# Altium footprint library Diodes_rus.PcbLib: 41 footprints (part 2 of 3)
Each footprint in its own frame and in the unit in brackets; x right, y up, seen from the top. Pads: shape width x height; smd on the part's side, far side on the other; paste and mask are expansions set on the pad; w line width, h text height; cw(c..) or ccw(c..) is an arc to the next point about the centre after c.
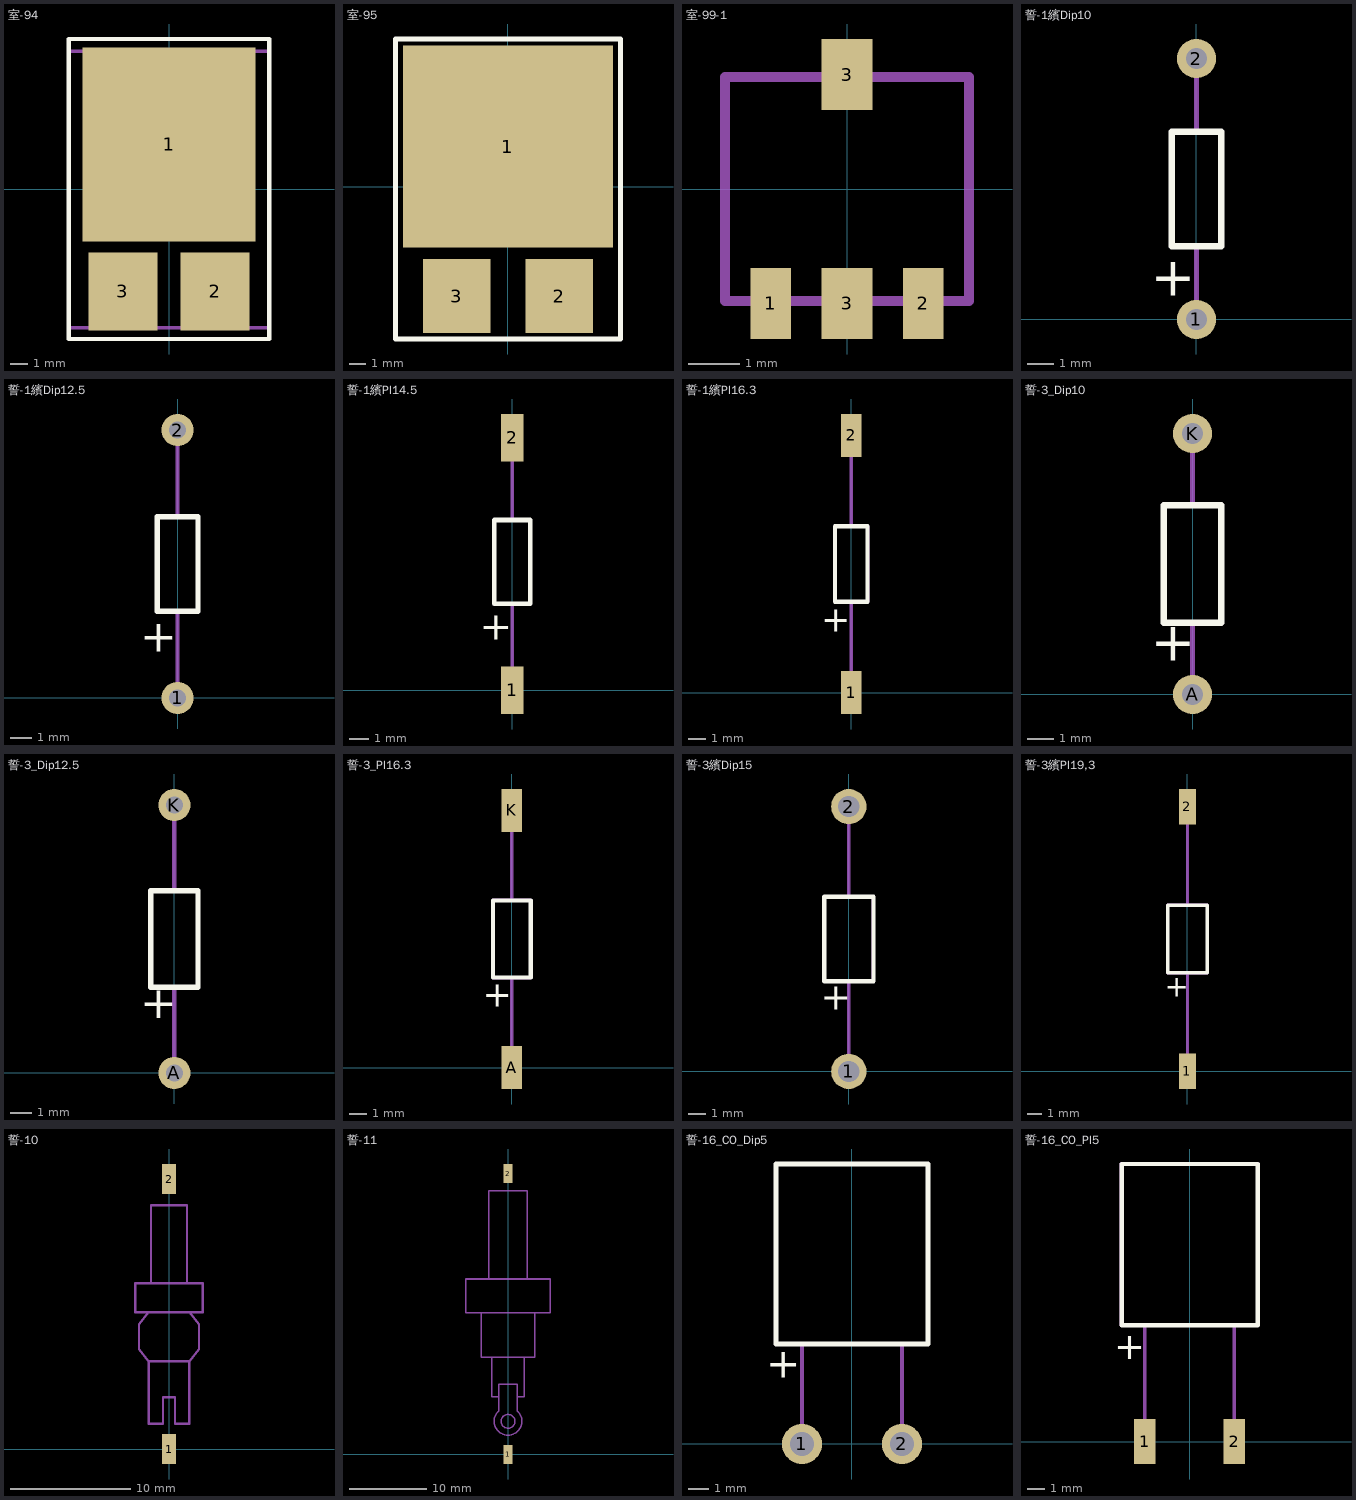
[diagram p1: the footprints below, top view; thin cyan lines are the x and y axes]

## 室-94 [mm]
height 3.6
pads (3):
  rect 10x11.2 smd: 1(0,2.6)
  rect 4x4.5 smd: 2(2.665,-5.9) 3(-2.665,-5.9)
Top Overlay:
  lines w0.25: -5.8,-8.65 5.8,-8.65 5.8,8.7 -5.8,8.7 -5.8,-8.65
Mechanical 1:
  lines w0.2: -5.8,-8 5.8,-8 5.8,8 -5.8,8 -5.8,-8
  text "+" at 1.55,-4.775 h1.5
  text "1" at 0,1.625 h1.5
  text "3" at -2.9,-6.3 h1.5
  text "2" at 2.4,-6.3 h1.5
  text "-" at 0,3.375 h1.5
  text ".Designator" at -2.67,-1.7 h1.5
3D body: height 3.6, standoff 0, extent -5.8,-8 5.8,8

## 室-95 [mm]
height 3.6
pads (3):
  rect 12.5x12 smd: 1(0,2.4)
  rect 4x4.4 smd: 2(3.05,-6.5) 3(-3.05,-6.5)
Top Overlay:
  lines w0.3: -6.7,-9.05 6.7,-9.05 6.7,8.8 -6.7,8.8 -6.7,-9.05
Mechanical 1:
  lines w0.2: -6.7,-9.05 6.7,-9.05 6.7,8.8 -6.7,8.8 -6.7,-9.05
  text ".Designator" at -2.42,-1.55 h1.5
  text "1" at 0,2.4 h1.5
  text "3" at -3.3,-7 h1.5
  text "2" at 2.8,-7 h1.5
3D body: height 3.6, standoff 0, extent -6.7,-9 6.7,9

## 室-99-1 [mm]
height 1.6
pads (4):
  rect 0.8x1.4 smd: 1(-1.5,-2.25) 2(1.5,-2.25)
  rect 1x1.4 smd: 3(0,-2.25) 3(0,2.25)
Top Solder:
  region: 2.4,-2.2 2.4,2.2 -2.4,2.2 -2.4,-2.2
Mechanical 1:
  lines w0.2: -1.5,-2.625 -1.5,-2.2 ; 0,-2.625 0,-2.2 ; 0,2.2 0,2.625 ; 1.5,-2.625 1.5,-2.2 ; -2.4,-2.2 2.4,-2.2 2.4,2.2 -2.4,2.2 -2.4,-2.2
  text ".Comment" at -2.95,-4.25 h1.5
  text ".Designator" at -1.1,-0.5 h1.5
  text "2" at 1.2,-1.675 h1.5
  text "3" at -0.3,0.675 h1.5
  text "1" at -1.65,-1.65 h1.5
3D body: height 1.6, standoff 0, extent -2.3,-2.625 2.3,2.625

## 誓-1繽Dip10 [mm]
height 1.9
pads (2):
  round 1.5 hole 0.8: 1(0,0) 2(0,10)
Top Overlay:
  lines w0.25: -0.95,2.8 0.95,2.8 0.95,7.2 -0.95,7.2 -0.95,2.8
  text "+" at -1.75,0.9 h1.5
Mechanical 1:
  lines w0.2: 0,0 0,2.75 ; 0,7.2 0,10 ; -0.95,2.8 0.95,2.8 0.95,7.2 -0.95,7.2 -0.95,2.8
  text ".Designator" at -1.55,2.35 h1.5
  text "+" at -0.35,3.05 h1.5
3D body: height 1.9, standoff -3, extent -0.95,-0.249 0.95,10.25

## 誓-1繽Dip12.5 [mm]
height 1.9
pads (2):
  round 1.5 hole 0.8: 1(0,0) 2(0,12.5)
Top Overlay:
  lines w0.25: -0.95,4.05 0.95,4.05 0.95,8.45 -0.95,8.45 -0.95,4.05
  text "+" at -1.75,2.15 h1.5
Mechanical 1:
  lines w0.2: 0,0 0,4 ; 0,8.45 0,12.5 ; -0.95,4.05 0.95,4.05 0.95,8.45 -0.95,8.45 -0.95,4.05
  text ".Designator" at -1.55,3.6 h1.5
  text "+" at -0.35,4.3 h1.5
3D body: height 1.9, standoff -3, extent -0.95,-0.249 0.95,12.75

## 誓-1繽Pl14.5 [mm]
height 1.9
pads (2):
  rect 1.2x2.5 smd: 1(0,0) 2(0,13.275)
Top Overlay:
  lines w0.25: -0.95,4.55 -0.95,8.95 0.95,8.95 0.95,4.55 -0.95,4.55
  text "+" at -1.7,2.65 h1.5
Mechanical 1:
  lines w0.2: 0,-0.5 0,4.55 ; 0,8.95 0,14 ; -0.95,4.55 -0.95,8.95 0.95,8.95 0.95,4.55 -0.95,4.55
  text ".Designator" at -1.6,4.85 h1.5
  text "+" at -0.3,4.8 h1.5
3D body: height 1.9, standoff 0, extent -0.95,-0.5 0.95,14

## 誓-1繽Pl16.3 [mm]
height 1.9
pads (2):
  rect 1.2x2.5 smd: 1(0,0) 2(0,15)
Top Overlay:
  lines w0.25: -0.95,5.3 -0.95,9.7 0.95,9.7 0.95,5.3 -0.95,5.3
  text "+" at -1.75,3.55 h1.5
Mechanical 1:
  lines w0.2: 0,-0.65 0,5.3 ; 0,9.7 0,15.65 ; -0.95,5.3 -0.95,9.7 0.95,9.7 0.95,5.3 -0.95,5.3
  text ".Designator" at -1.6,5.65 h1.5
  text "+" at -0.35,5.7 h1.5
3D body: height 1.9, standoff 0, extent -0.95,-0.65 0.95,15.65

## 誓-3_Dip10 [mm]
height 2.2
pads (2):
  round 1.5 hole 0.8: A(0,0) K(0,10)
Top Overlay:
  lines w0.25: -1.1,2.75 -1.1,7.25 1.1,7.25 1.1,2.75 -1.1,2.75
  text "+" at -1.6,1.3 h1.5
Mechanical 1:
  lines w0.2: 0,0 0,2.75 ; 0,7.25 0,10 ; -1.1,2.75 -1.1,7.25 1.1,7.25 1.1,2.75 -1.1,2.75
  text ".Designator" at -1.65,1.93 h1.5
  text "+" at -0.25,3.3 h1.5
3D body: height 1.9, standoff -3, extent -0.95,-0.249 0.95,10.25

## 誓-3_Dip12.5 [mm]
height 2.2
pads (2):
  round 1.5 hole 0.8: A(0,0) K(0,12.5)
Top Overlay:
  lines w0.25: -1.1,4 1.1,4 1.1,8.5 -1.1,8.5 -1.1,4
  text "+" at -1.6,2.55 h1.5
Mechanical 1:
  lines w0.2: 0,0 0,4 ; 0,8.5 0,12.5 ; -1.1,4 1.1,4 1.1,8.5 -1.1,8.5 -1.1,4
  text "+" at -0.25,4.55 h1.5
  text ".Designator" at -1.65,3.18 h1.5
3D body: height 1.9, standoff -3, extent -0.95,-0.249 0.95,12.75

## 誓-3_Pl16.3 [mm]
height 2.2
pads (2):
  rect 1.2x2.5 smd: A(0,0) K(0,15)
Top Overlay:
  lines w0.25: -1.1,5.25 -1.1,9.75 1.1,9.75 1.1,5.25 -1.1,5.25
  text "+" at -1.7,3.55 h1.5
Mechanical 1:
  lines w0.2: 0,-0.65 0,5.25 ; 0,9.75 0,15.65 ; -1.1,5.25 -1.1,9.75 1.1,9.75 1.1,5.25 -1.1,5.25
  text "+" at -0.3,5.7 h1.5
  text ".Designator" at -1.8,5.9 h1.5
3D body: height 2.2, standoff 0, extent -1.1,-0.65 1.1,15.65

## 誓-3繽Dip15 [mm]
height 2.8
pads (2):
  round 2 hole 1.2: 1(0,0) 2(0,15)
Top Overlay:
  lines w0.25: -1.4,5.1 -1.4,9.9 1.4,9.9 1.4,5.1 -1.4,5.1
  text "+" at -1.6,3.5 h1.5
Mechanical 1:
  lines w0.2: 0,0 0,5.1 ; 0,9.9 0,15 ; -1.4,5.1 -1.4,9.9 1.4,9.9 1.4,5.1 -1.4,5.1
  text ".Designator" at -2,4.48 h1.5
  text "+" at -0.5,5.6 h1.5
3D body: height 2.8, standoff -3, extent -1.4,-0.45 1.4,15.448

## 誓-3繽Pl19,3 [mm]
height 2.8
pads (2):
  rect 1.2x2.5 smd: 1(0,0) 2(0,18.75)
Top Overlay:
  lines w0.25: -1.4,6.975 -1.4,11.775 1.4,11.775 1.4,6.975 -1.4,6.975
  text "+" at -1.6,5.3 h1.5
Mechanical 1:
  lines w0.2: 0,-0.275 0,6.975 ; 0,11.775 0,19.025 ; -1.4,6.975 -1.4,11.775 1.4,11.775 1.4,6.975 -1.4,6.975
  text "+" at -0.5,7.4 h1.5
  text ".Designator" at -1.95,6.13 h1.5
3D body: height 2.8, standoff 0, extent -1.4,-0.25 1.4,19.05

## 誓-10 [mm]
height 5
pads (2):
  rect 1.2x2.5 smd: 1(0,0) 2(0,22.5)
Mechanical 1:
  lines w0.2: -1.7,11.4 -2.5,10.4 -2.5,8.3 -1.7,7.3 ; -1.5,13.8 -1.5,20.3 1.5,20.3 1.5,13.8 ; 1.7,11.4 2.5,10.4 2.5,8.3 1.7,7.3 ; -1.7,7.3 -1.7,2.1 -0.5,2.1 -0.5,4.3 0.5,4.3 0.5,2.1 1.7,2.1 1.7,7.3 ; -1.7,7.3 1.7,7.3 ; -2.8,11.4 -2.8,13.8 2.8,13.8 2.8,11.4 -2.8,11.4
  text "1" at 0.772,-1.507 h1.5
  text "2" at 1.272,21.243 h1.5
  text ".Designator" at 0.4,14.4 h1.5

## 誓-11 [mm]
height 15
pads (2):
  rect 1.2x2.5 smd: 1(0,0) 2(0,36.5)
Mechanical 1:
  circle w0.2: c0,4.3 r0.9
  lines w0.2: -3.5,18.4 -3.5,12.6 3.5,12.6 3.5,18.4 ; -2.5,22.8 -2.5,34.3 2.5,34.3 2.5,22.8 ; -2.1,12.6 -2.1,7.5 -1.2,7.5 ; 1.2,7.5 2.1,7.5 2.1,12.6 ; -5.5,18.4 -5.5,22.8 5.5,22.8 5.5,18.4 -5.5,18.4 ; -1.2,5.65 ccw(c0,4.3) 1.2,5.65 1.2,9.1 -1.2,9.1 -1.2,5.65
  text "2" at 1.272,35.243 h1.5
  text "1" at 0.772,-1.257 h1.5
  text ".Designator" at 0.2,24.95 h1.5

## 誓-16_CO_Dip5 [mm]
height 4
pads (2):
  round 2 hole 1.2 unplated: 1(-2.5,0) 2(2.5,0)
Top Overlay:
  lines w0.25: -3.8,5 -3.8,14 3.8,14 3.8,5 -3.8,5
  text "+" at -4.3,3.3 h1.5
Mechanical 1:
  lines w0.2: -3.775,5 -3.8,5 ; -2.5,0 -2.5,5 ; 2.5,0 2.5,5 ; 3.775,5 3.8,5 ; 3.8,9.5 3.8,5 ; -3.8,5 -3.8,14 3.8,14 3.8,5 ; -3.8,5 3.8,5
  text ".Comment" at -2.65,9.15 h1.5
  text "+" at -2.85,5.5 h1.5
  text ".Designator" at -1.45,11.35 h1.5
3D body: height 4, standoff -3, extent -3.8,-0.5 3.8,13.999

## 誓-16_CO_Pl5 [mm]
height 4
pads (2):
  rect 1.2x2.5 smd: 1(-2.5,0) 2(2.5,0)
Top Overlay:
  lines w0.25: -3.8,6.5 3.8,6.5 3.8,15.5 -3.8,15.5 -3.8,6.5
  text "+" at -4.2,4.6 h1.5
Mechanical 1:
  lines w0.2: -3.775,6.5 -3.8,6.5 ; -2.5,-0.25 -2.5,6.5 ; 2.5,-0.25 2.5,6.5 ; 3.775,6.5 3.8,6.5 ; 3.8,11 3.8,6.5 ; -3.8,6.5 3.8,6.5 ; -3.8,6.5 -3.8,15.5 3.8,15.5 3.8,6.5
  text ".Designator" at -1.65,12.25 h1.5
  text ".Comment" at -2.85,10.05 h1.5
  text "+" at -2.8,7.25 h1.5
3D body: height 4, standoff 0, extent -3.8,-0.75 3.8,15.5